# EAGLE library part 12VCONV (library 12VCONV)
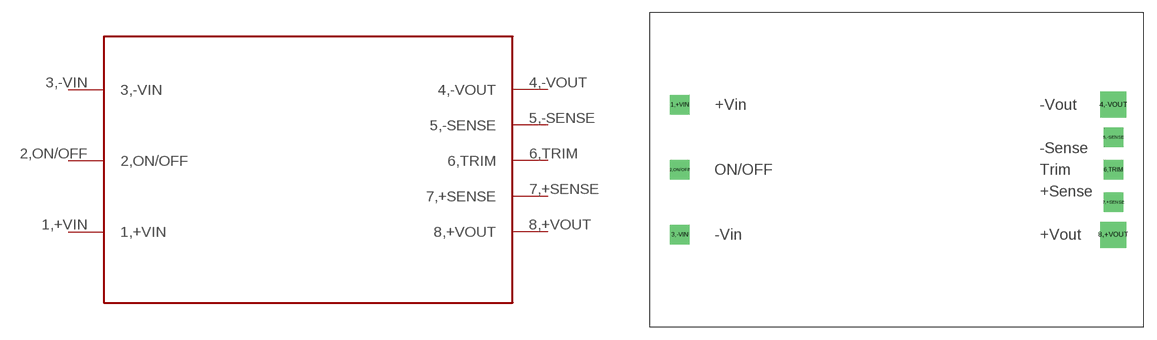
[diagram p0: symbol with the pads of 12VCONV; footprint 12VCONV]

Designator prefix -

## 12VCONV  [12VCONV]
1,+VIN  1,+VIN
2,ON/OFF  2,ON/OFF
3,-VIN  3,-VIN
4,-VOUT  4,-VOUT
5,-SENSE  5,-SENSE
6,TRIM  6,TRIM
7,+SENSE  7,+SENSE
8,+VOUT  8,+VOUT

## Footprint 12VCONV (pad centres in mm)
drill 1.524 square: 1,+VIN 3.556,26.035; 2,ON/OFF 3.556,18.415; 3,-VIN 3.556,10.795; 5,-SENSE 54.356,22.225; 6,TRIM 54.356,18.415; 7,+SENSE 54.356,14.605
drill 2.032 square: 4,-VOUT 54.356,26.035; 8,+VOUT 54.356,10.795